# Altium schematic symbol library SCH - POWER - LINEAR VREG - AD LT3045-1 MSE.SchLib: 1 symbol
Pins are listed as number, name and electrical type; pins without a type are passive.

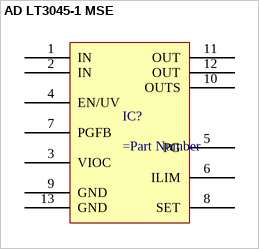
[diagram p0: symbol AD LT3045-1 MSE]

## AD LT3045-1 MSE
designator IC?
pins: 1 IN, 2 IN, 3 VIOC, 4 EN/UV, 5 PG, 6 ILIM, 7 PGFB, 8 SET, 9 GND, 10 OUTS, 11 OUT, 12 OUT, 13 GND